# Altium footprint library ESP32_PCB.PcbLib: 1 footprints
Each footprint in its own frame and in the unit in brackets; x right, y up, seen from the top. Pads: shape width x height; smd on the part's side, far side on the other; paste and mask are expansions set on the pad; w line width, h text height; cw(c..) or ccw(c..) is an arc to the next point about the centre after c.
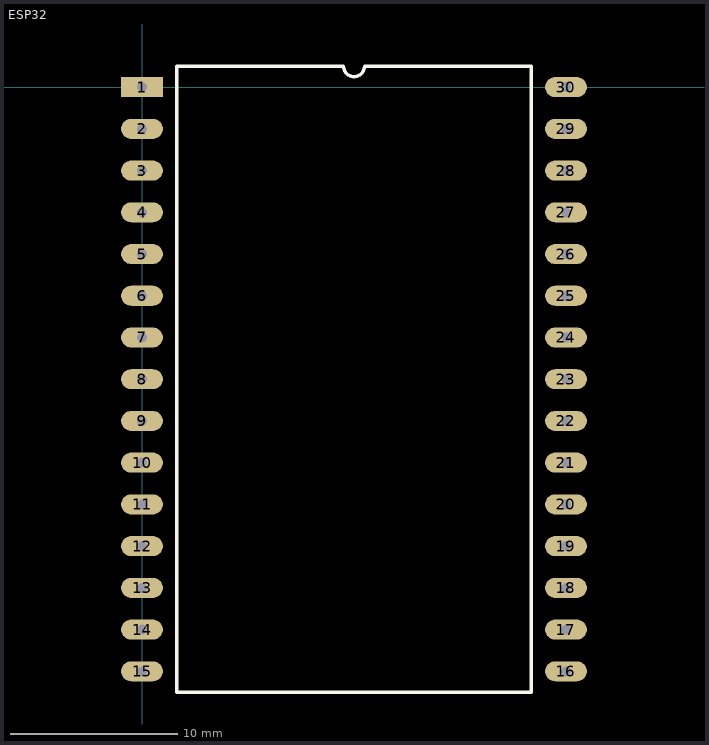
[diagram p0: the footprint, top view; thin cyan lines are the x and y axes]

## ESP32 [mm]
pads (30):
  rect 2.5x1.2 hole 0.6: 1(0,0)
  oval 2.5x1.2 hole 0.6: 2(0,-2.5) 3(0,-5) 4(0,-7.5) 5(0,-10) 6(0,-12.5) 7(0,-15) 8(0,-17.5) 9(0,-20) 10(0,-22.5) 11(0,-25) 12(0,-27.5) 13(0,-30) 14(0,-32.5) 15(0,-35) 16(25.4,-35) 17(25.4,-32.5) 18(25.4,-30) 19(25.4,-27.5) 20(25.4,-25) 21(25.4,-22.5) 22(25.4,-20) 23(25.4,-17.5) 24(25.4,-15) 25(25.4,-12.5) 26(25.4,-10) 27(25.4,-7.5) 28(25.4,-5) 29(25.4,-2.5) 30(25.4,0)
Top Overlay:
  lines w0.2: 2.085,-36.25 23.315,-36.25 23.315,1.25 13.325,1.25 cw(c12.7,1.25) 12.075,1.25 2.085,1.25 2.085,-36.25